# EAGLE library part MCP73213 (library Microchip)
BATT CHARGER, LI-ION/LI-POLY, 10DFN
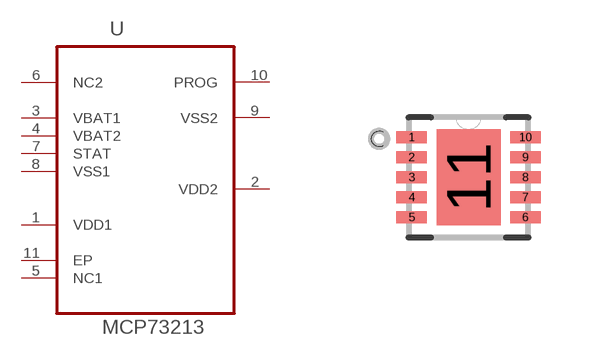
[diagram p1: symbol with the pads of DFN300X300X90-11N; footprint DFN300X300X90-11N]

Designator prefix U

## MCP73213-A6SI/MF (MPN: MCP73213-A6SI/MF; OC_FARNELL: 1800230; OC_NEWARK: 74R0745; PACKAGE: DFN-10; SUPPLIER: Microchip), MCP73213-B6SI/MF (MPN: MCP73213-B6SI/MF; OC_FARNELL: 1800232; OC_NEWARK: 14R8879; PACKAGE: DFN-10; SUPPLIER: Microchip)  [DFN300X300X90-11N]
1  VDD1  in
2  VDD2  in
3  VBAT1
4  VBAT2
5  NC1  nc
6  NC2  nc
7  STAT  out
8  VSS1  pwr
9  VSS2  pwr
10  PROG
11  EP  pwr

## Footprint DFN300X300X90-11N (pad centres in mm)
smd 0.762 x 0.3: 1 -1.422,1; 2 -1.422,0.5; 3 -1.422,0; 4 -1.422,-0.5; 5 -1.422,-1; 6 1.422,-1; 7 1.422,-0.5; 8 1.422,0; 9 1.422,0.5; 10 1.422,1
smd 1.6 x 2.4: 11 0,0